# Altium footprint library Integrados.PcbLib: 8 footprints
Each footprint in its own frame and in the unit in brackets; x right, y up, seen from the top. Pads: shape width x height; smd on the part's side, far side on the other; paste and mask are expansions set on the pad; w line width, h text height; cw(c..) or ccw(c..) is an arc to the next point about the centre after c.
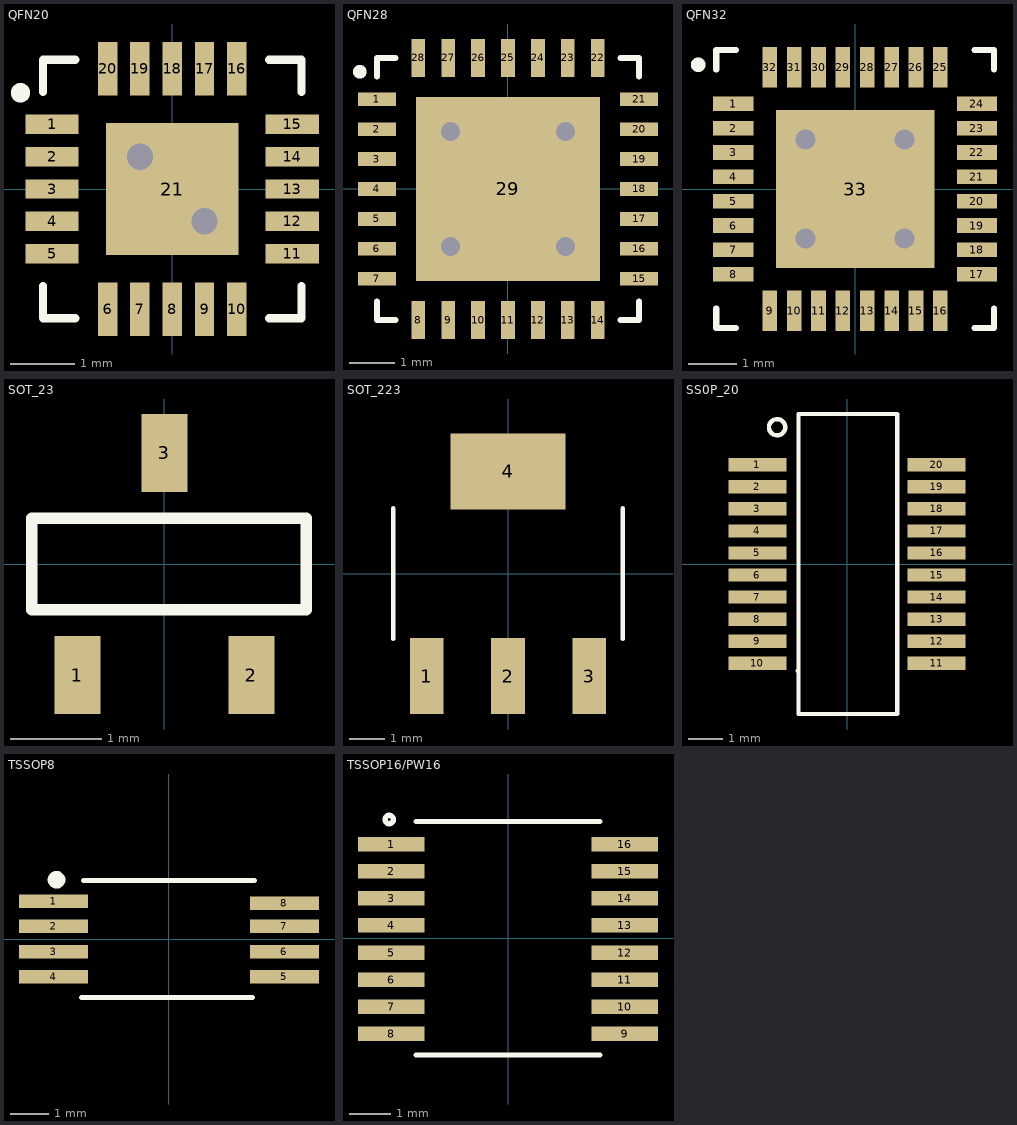
[diagram p0: the footprints below, top view; thin cyan lines are the x and y axes]

## QFN20 [mm]
pads (21):
  rect 0.825x0.3 smd mask+0.07: 1(-1.86,1) 2(-1.86,0.5) 3(-1.86,0) 4(-1.86,-0.5) 5(-1.86,-1) 11(1.86,-1) 12(1.86,-0.5) 13(1.86,0) 14(1.86,0.5) 15(1.86,1)
  rect 0.3x0.825 smd mask+0.07: 6(-1,-1.86) 7(-0.5,-1.86) 8(0,-1.86) 9(0.5,-1.86) 10(1,-1.86) 16(1,1.86) 17(0.5,1.86) 18(0,1.86) 19(-0.5,1.86) 20(-1,1.86)
  rect 2.05x2.05 smd: 21(0,0)
via -0.5,0.5 diameter 0.813 hole 0.406
via 0.5,-0.5 diameter 0.813 hole 0.406
Top Overlay:
  circle w0.254: c-2.35,1.49 r0.022
  lines w0.127: -2,-1.5 -2,-2 -1.5,-2 ; -2,1.5 -2,2 -1.5,2 ; 1.5,-2 2,-2 ; 1.5,2 2,2 ; 2,-1.5 2,-2 ; 2,1.5 2,2 ; 2,-2 2,-2 ; 2,2 2,2 ; 2,2 2,2

## QFN28 [mm]
pads (29):
  rect 0.825x0.3 smd mask+0.07: 1(-2.85,1.95) 2(-2.85,1.3) 3(-2.85,0.65) 4(-2.85,0) 5(-2.85,-0.65) 6(-2.85,-1.3) 7(-2.85,-1.95) 15(2.85,-1.95) 16(2.85,-1.3) 17(2.85,-0.65) 18(2.85,0) 19(2.85,0.65) 20(2.85,1.3) 21(2.85,1.95)
  rect 0.3x0.825 smd mask+0.07: 8(-1.95,-2.85) 9(-1.3,-2.85) 10(-0.65,-2.85) 11(0,-2.85) 12(0.65,-2.85) 13(1.3,-2.85) 14(1.95,-2.85) 22(1.95,2.85) 23(1.3,2.85) 24(0.65,2.85) 25(0,2.85) 26(-0.65,2.85) 27(-1.3,2.85) 28(-1.95,2.85)
  rect 4x4 smd: 29(0,0)
via 1.25,1.25 diameter 0.813 hole 0.406
via 1.25,-1.25 diameter 0.813 hole 0.406
via -1.25,-1.25 diameter 0.813 hole 0.406
via -1.25,1.25 diameter 0.813 hole 0.406
Top Overlay:
  circle w0.254: c-3.222,2.55 r0.022
  lines w0.127: -2.85,-2.45 -2.85,-2.85 -2.45,-2.85 ; -2.85,2.45 -2.85,2.85 -2.45,2.85 ; 2.45,-2.85 2.85,-2.85 2.85,-2.45 ; 2.45,2.85 2.85,2.85 2.85,2.45

## QFN32 [mm]
pads (33):
  rect 0.825x0.3 smd mask+0.07: 1(-2.5,1.75) 2(-2.5,1.25) 3(-2.5,0.75) 4(-2.5,0.25) 5(-2.5,-0.25) 6(-2.5,-0.75) 7(-2.5,-1.25) 8(-2.5,-1.75) 17(2.5,-1.75) 18(2.5,-1.25) 19(2.5,-0.75) 20(2.5,-0.25) 21(2.5,0.25) 22(2.5,0.75) 23(2.5,1.25) 24(2.5,1.75)
  rect 0.3x0.825 smd mask+0.07: 9(-1.75,-2.5) 10(-1.25,-2.5) 11(-0.75,-2.5) 12(-0.25,-2.5) 13(0.25,-2.5) 14(0.75,-2.5) 15(1.25,-2.5) 16(1.75,-2.5) 25(1.75,2.5) 26(1.25,2.5) 27(0.75,2.5) 28(0.25,2.5) 29(-0.25,2.5) 30(-0.75,2.5) 31(-1.25,2.5) 32(-1.75,2.5)
  rect 3.25x3.25 smd: 33(0,0)
via 1.016,1.016 diameter 0.813 hole 0.406
via -1.016,1.016 diameter 0.813 hole 0.406
via -1.016,-1.016 diameter 0.813 hole 0.406
via 1.016,-1.016 diameter 0.813 hole 0.406
Top Overlay:
  circle w0.254: c-3.222,2.55 r0.022
  lines w0.127: -2.85,-2.45 -2.85,-2.85 -2.45,-2.85 ; -2.85,2.45 -2.85,2.85 -2.45,2.85 ; 2.45,-2.85 2.85,-2.85 2.85,-2.45 ; 2.45,2.85 2.85,2.85 2.85,2.45

## SOT_23 [mm] "SOT 23"
pads (3):
  rect 0.5x0.85 smd: 1(-0.95,-1.212) 2(0.95,-1.212) 3(0,1.213)
Top Overlay:
  lines w0.127: -1.45,-0.5 -1.45,0.5 1.55,0.5 1.55,-0.5 -1.45,-0.5

## SOT_223 [mm] "SOT 223"
pads (4):
  rect 0.95x2.15 smd: 1(-2.3,-2.9) 2(0,-2.9) 3(2.3,-2.9)
  rect 3.25x2.15 smd: 4(0,2.9)
Top Overlay:
  lines w0.127: -3.25,-1.85 -3.25,1.85 ; 3.25,-1.85 3.25,1.85

## SS0P_20 [mil]
pads (20):
  rect 66x15 smd: 1(-101.5,112.5) 2(-101.5,87.5) 3(-101.5,62.5) 4(-101.5,37.5) 5(-101.5,12.5) 6(-101.5,-12.5) 7(-101.5,-37.5) 8(-101.5,-62.5) 9(-101.5,-87.5) 10(-101.5,-112.5) 11(101.5,-112.5) 12(101.5,-87.5) 13(101.5,-62.5) 14(101.5,-37.5) 15(101.5,-12.5) 16(101.5,12.5) 17(101.5,37.5) 18(101.5,62.5) 19(101.5,87.5) 20(101.5,112.5)
Top Overlay:
  circle w5: c-79.22,155 r9.22
  lines w5: -56,-121 -55,-120 ; 55,170 -55,170 -55,-170 57,-170 57,170

## TSSOP8 [mm]
pads (8):
  rect 1.78x0.35 smd: 1(-2.97,0.975) 2(-2.97,0.325) 3(-2.97,-0.325) 4(-2.97,-0.975) 5(2.97,-0.975) 6(2.97,-0.325) 7(2.97,0.325) 8(2.97,0.925)
Top Overlay:
  circle w0.254: c-2.894,1.524 r0.1
  lines w0.127: -2.25,-1.5 2.15,-1.5 ; -2.2,1.5 2.2,1.5

## TSSOP16/PW16 [mm]
pads (16):
  rect 1.6x0.35 smd: 1(-2.8,2.257) 2(-2.8,1.607) 3(-2.8,0.957) 4(-2.8,0.307) 5(-2.8,-0.343) 6(-2.8,-0.993) 7(-2.8,-1.643) 8(-2.8,-2.293) 9(2.8,-2.293) 10(2.8,-1.643) 11(2.8,-0.993) 12(2.8,-0.343) 13(2.8,0.307) 14(2.8,0.957) 15(2.8,1.607) 16(2.8,2.257)
Top Overlay:
  circle w0.127: c-2.85,2.85 r0.1
  lines w0.127: -2.2,-2.8 2.2,-2.8 ; -2.2,2.8 2.2,2.8